# Altium footprint library RJ45-8N4-B.PcbLib: 1 footprints
Each footprint in its own frame and in the unit in brackets; x right, y up, seen from the top. Pads: shape width x height; smd on the part's side, far side on the other; paste and mask are expansions set on the pad; w line width, h text height; cw(c..) or ccw(c..) is an arc to the next point about the centre after c.
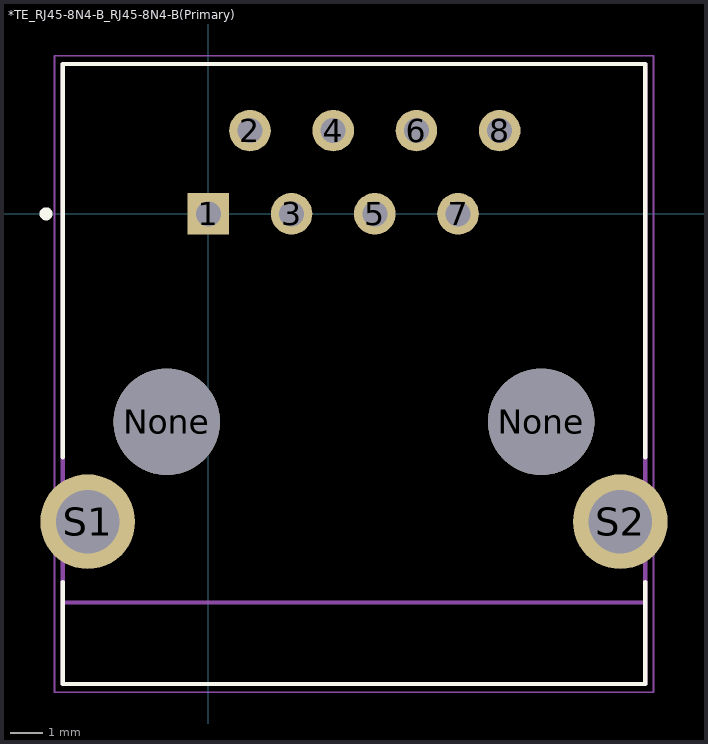
[diagram p0: the footprint, top view; thin cyan lines are the x and y axes]

## *TE_RJ45-8N4-B_RJ45-8N4-B(Primary) [mil]
pads (12):
  rect 50x50 hole 30: 1(0,0)
  round 50 hole 30: 2(50,100) 3(100,0) 4(150,100) 5(200,0) 6(250,100) 7(300,0) 8(350,100)
  round 128 hole 128 unplated: None(-50,-250) None(400,-250)
  round 114 hole 76: S1(-145,-370) S2(495,-370)
Top Overlay:
  circle w7.87: c-195,0 r3.94
  lines w5: -175,-442.5 -175,-564.98 525,-565 ; -175,-292.5 -175,179.98 ; -174.75,179.98 -175,179.98 ; 524.96,-565.07 524.96,-542.5 525,-542.5 525,-442.5 ; 525,-292.5 525,179.98 -175,180
Mechanical 13:
  lines w5: -175,-565 -175,-467 ; -175,-565 525,-565 ; -175,-565 -175,-467 ; -175,-565 525,-565 ; -175,-467 525,-467 ; -175,-467 -175,180 ; -175,-467 525,-467 ; -175,-467 -175,180 ; -175,180 525,180 ; -175,180 525,180 ; 525,-565 525,-467 ; 525,-565 525,-467 ; 525,-467 525,180 ; 525,-467 525,180
  text "EDGE OF BOARD" at 0,-470.54 h73.82
  text "EDGE OF BOARD" at 0,-470.54 h73.82
Mechanical 15:
  lines w1.97: -184.84,-574.84 -184.84,189.84 534.84,189.84 534.84,-574.84 -184.84,-574.84